# EAGLE library part DRF1278F_2 (library DRF1278F)
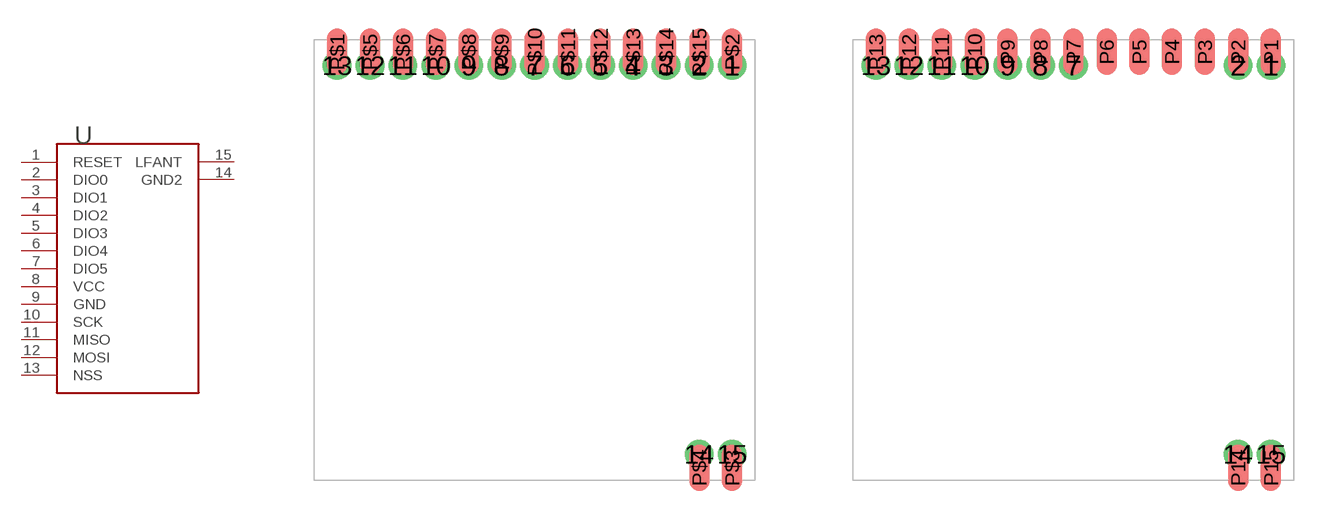
[diagram p0: symbol with the pads of DRF1278F_2; footprints DRF1278F_2, DRF1278F_2_LESS_PINS]

Designator prefix -

## DRF1278F_2  [DRF1278F_2]
1  RESET
2  DIO0
3  DIO1
4  DIO2
5  DIO3
6  DIO4
7  DIO5
8  VCC
9  GND
10  SCK
11  MISO
12  MOSI
13  NSS
14  GND2
15  LFANT

## DRF1278F_2LESS_PINS  [DRF1278F_2_LESS_PINS]
1  RESET
2  DIO0
7  DIO5
8  VCC
9  GND
10  SCK
11  MISO
12  MOSI
13  NSS
14  GND2
15  LFANT
P1  RESET
P2  DIO0
P3  DIO1
P4  DIO2
P5  DIO3
P6  DIO4
P7  DIO5
P8  VCC
P9  GND
P10  SCK
P11  MISO
P12  MOSI
P13  NSS
P14  GND2
P15  LFANT

## DRF1278F_2NO_PINS  [DRF1278F_2_NO_PINS]
P1  RESET
P2  DIO0
P3  DIO1
P4  DIO2
P5  DIO3
P6  DIO4
P7  DIO5
P8  VCC
P9  GND
P10  SCK
P11  MISO
P12  MOSI
P13  NSS
P14  GND2
P15  LFANT

## Footprint DRF1278F_2 (pad centres in mm)
drill 0.6 pad 0.85: 1 16.12,16; 2 14.85,16; 3 13.57,16; 4 12.3,16; 5 11.04,16; 6 9.77,16; 7 8.5,16; 8 7.23,16; 9 5.96,16; 10 4.69,16; 11 3.42,16; 12 2.15,16; 13 0.88,16; 14 14.85,1; 15 16.12,1
smd 0.8 x 1.8: P$1 0.88,16.53; P$2 16.12,16.53; P$3 16.12,0.48; P$4 14.85,0.48; P$5 2.15,16.53; P$6 3.42,16.53; P$7 4.69,16.53; P$8 5.96,16.53; P$9 7.23,16.53; P$10 8.5,16.53; P$11 9.78,16.53; P$12 11.04,16.53; P$13 12.3,16.53; P$14 13.57,16.53; P$15 14.85,16.53

## Footprint DRF1278F_2_LESS_PINS (pad centres in mm)
drill 0.6 pad 0.85: 1 16.12,16; 2 14.85,16; 7 8.5,16; 8 7.23,16; 9 5.96,16; 10 4.69,16; 11 3.42,16; 12 2.15,16; 13 0.88,16; 14 14.85,1; 15 16.12,1
smd 0.8 x 1.8: P1 16.12,16.53; P2 14.85,16.53; P3 13.57,16.53; P4 12.3,16.53; P5 11.04,16.53; P6 9.78,16.53; P7 8.5,16.53; P8 7.23,16.53; P9 5.96,16.53; P10 4.69,16.53; P11 3.42,16.53; P12 2.15,16.53; P13 0.88,16.53; P14 14.85,0.48; P15 16.12,0.48

## Footprint DRF1278F_2_NO_PINS (pad centres in mm)
smd 0.8 x 1.8: P1 16.12,16.53; P2 14.85,16.53; P3 13.57,16.53; P4 12.3,16.53; P5 11.04,16.53; P6 9.78,16.53; P7 8.5,16.53; P8 7.23,16.53; P9 5.96,16.53; P10 4.69,16.53; P11 3.42,16.53; P12 2.15,16.53; P13 0.88,16.53; P14 14.85,0.48; P15 16.12,0.48